# Altium integrated library Dallas Peripheral Real Time Clock.IntLib: 145 symbols (part 2 of 3)
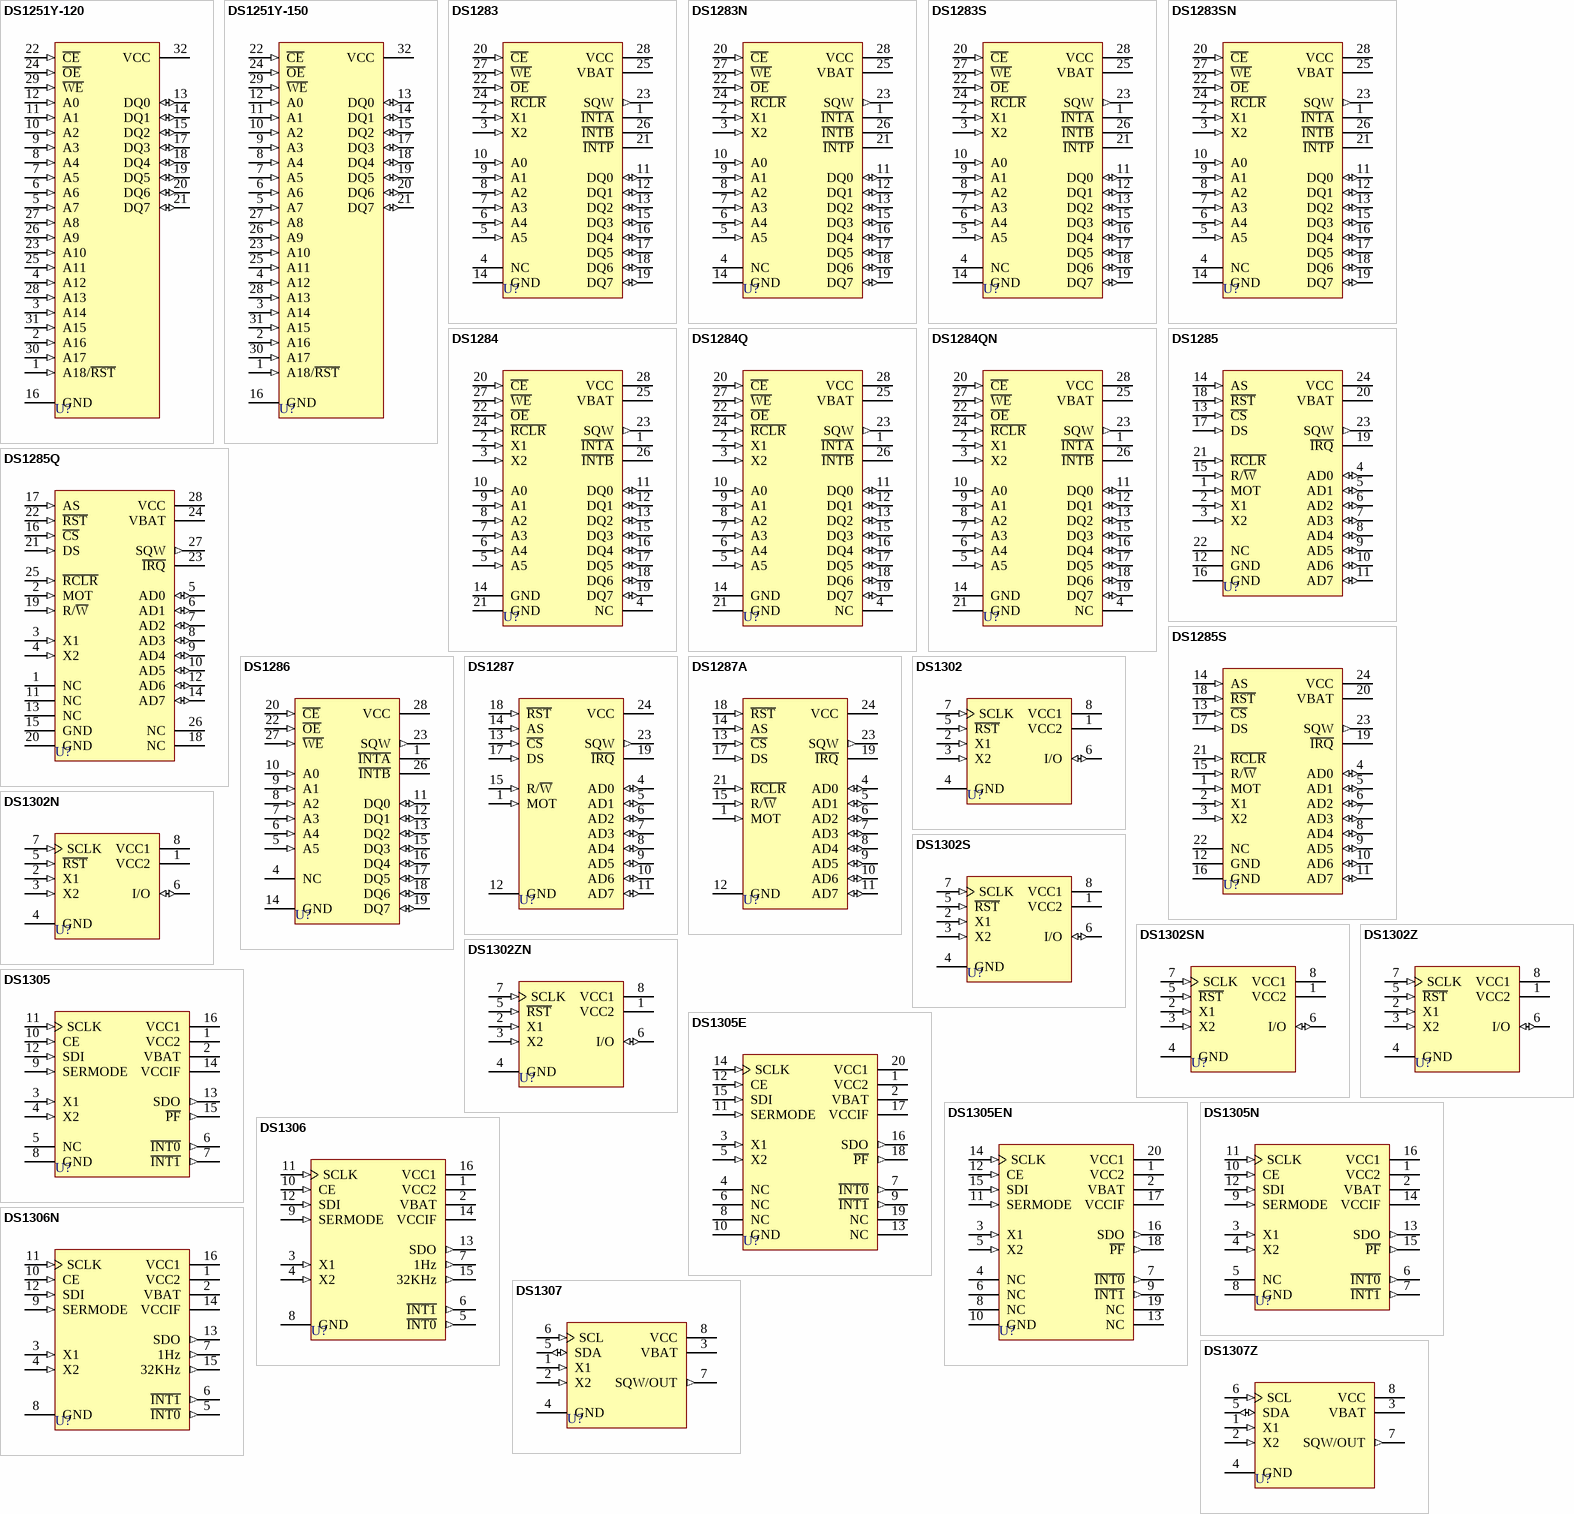
[diagram p6: symbols DS1251Y-120 to DS1307Z]

## DS1307Z
designator U?
64 X 8 Serial Real-Time Clock; PackageDocument: 1999; Published: 13-Oct-2000; LatestRevisionDate: 06-Jun-2005; LatestRevisionNote: Stylized 3D Model Added.; DatasheetDocument: 10-Aug-1999; PackageReference: SOIC8N; Publisher: Altium Limited; ComponentLink1Description: Manufacturer Link; ComponentLink1URL: http://www.maxim-ic.com/; ComponentLink2Description: Datasheet; ComponentLink2URL: http://pdfserv.maxim-ic.com/en/ds/DS1307.pdf; ComponentLink3Description: Discontinuation Notice; ComponentLink3URL: http://www.maxim-ic.com/qa/pdfs/non-obsolescence-letter.pdf
footprint SOIC8N (Small Outline; 8 Leads; Body Width 3.9 mm; Pitch 1.27 mm)
3D model SOIC8N (Small Outline; 8 Leads; Body Width 3.9 mm; Pitch 1.27 mm)
pins: 1 X1 (in), 2 X2 (in), 3 VBAT (power), 4 GND (power), 5 SDA (io), 6 SCL (in), 7 SQW/OUT (out), 8 VCC (power)

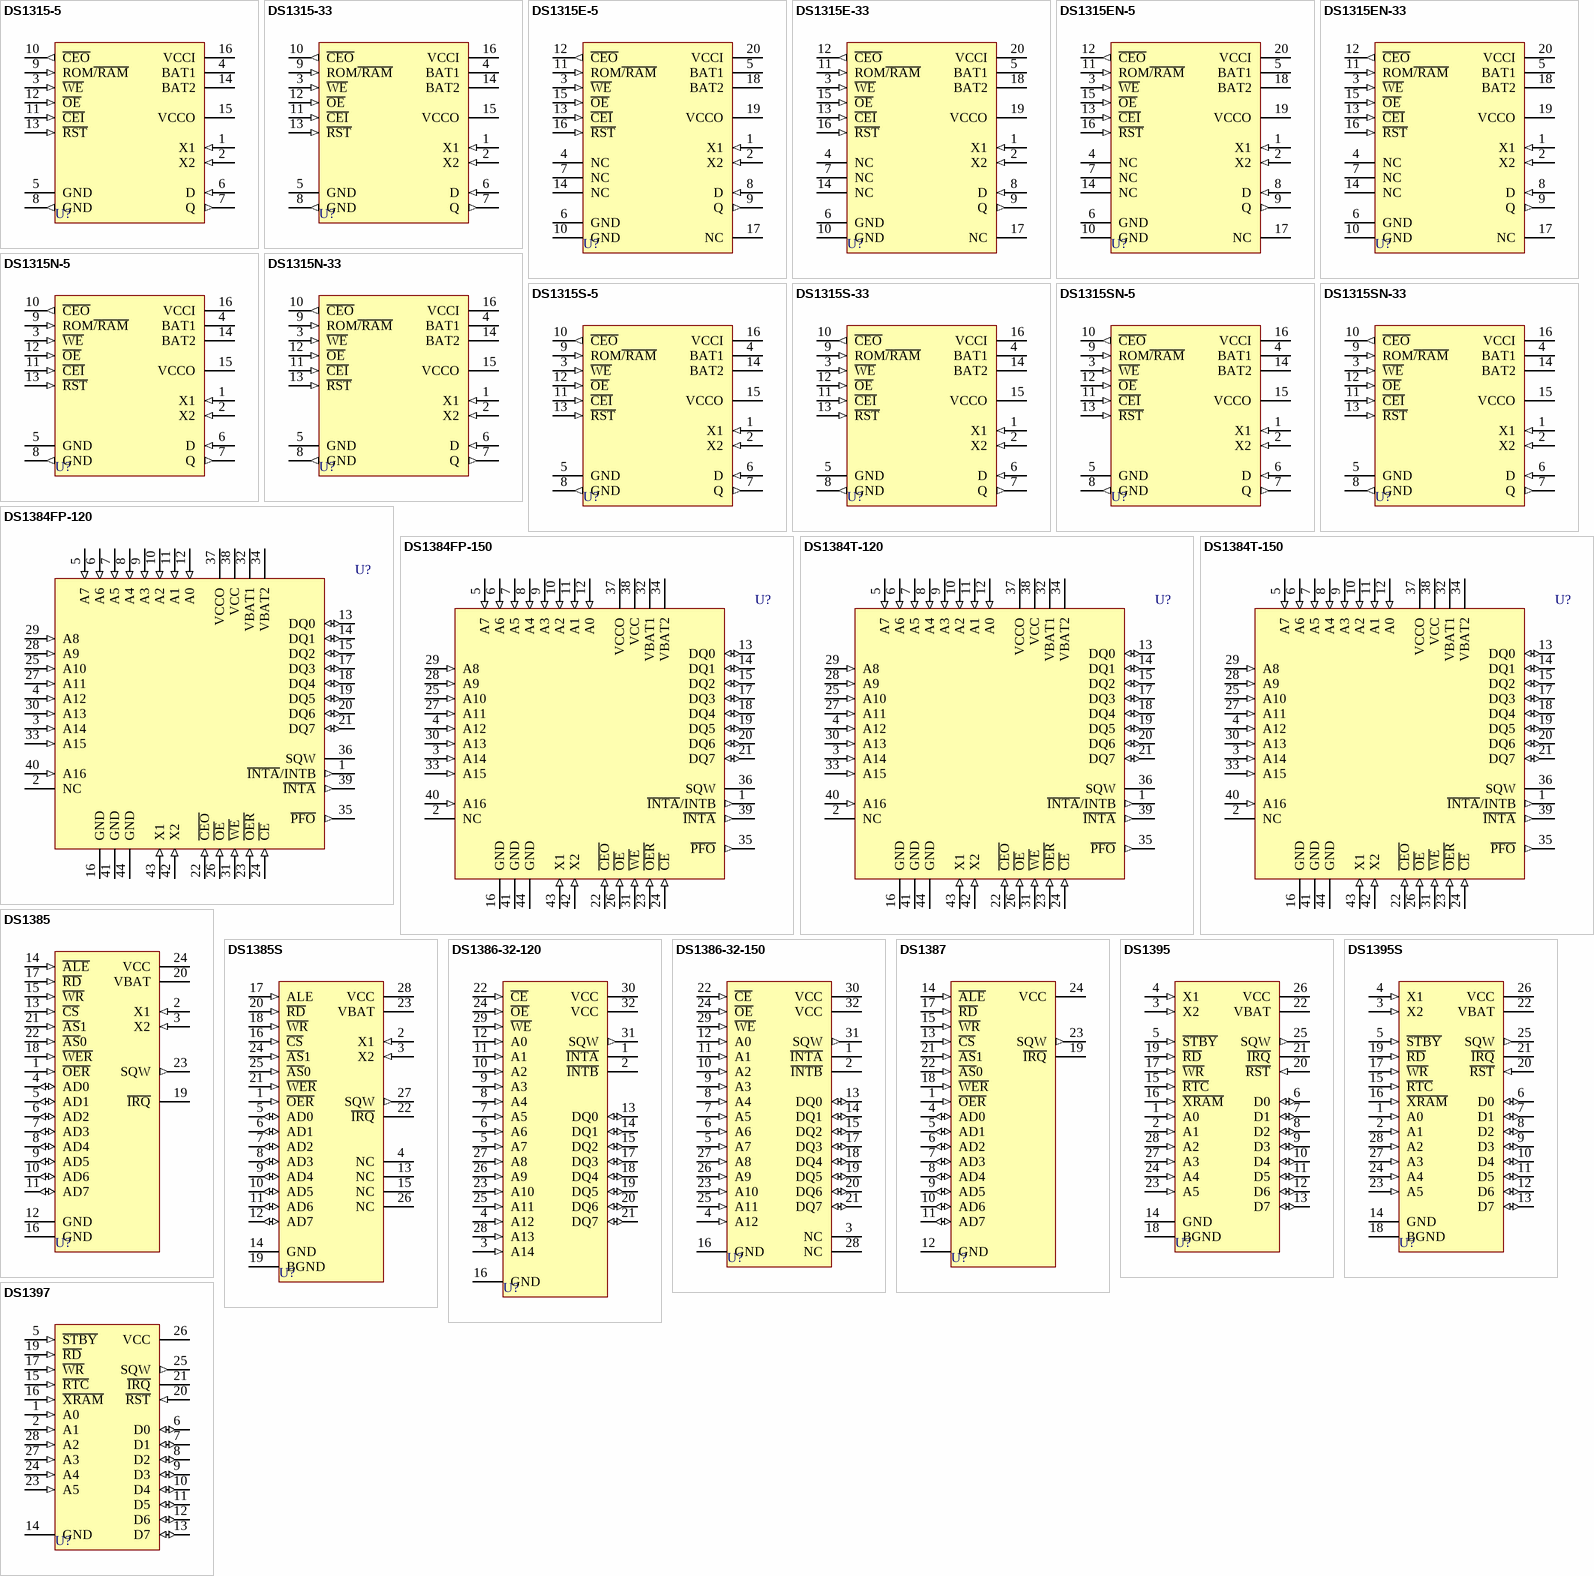
[diagram p2: symbols DS1315-5 to DS1397]

## DS1315-5
designator U?
Phantom Time Chip; PackageDocument: 1999; Published: 13-Oct-2000; LatestRevisionDate: 06-Jun-2005; LatestRevisionNote: Stylized 3D Model Added.; DatasheetDocument: 26-Aug-1999; PackageReference: DIP16; Publisher: Altium Limited; ComponentLink1Description: Manufacturer Link; ComponentLink1URL: http://www.maxim-ic.com/; ComponentLink2Description: Datasheet; ComponentLink2URL: http://pdfserv.maxim-ic.com/en/ds/DS1315.pdf
footprint DIP16 (DIP; 16 Leads; Row Spacing 7.62 mm; Pitch 2.54 mm)
3D model DIP16 (DIP; 16 Leads; Row Spacing 7.62 mm; Pitch 2.54 mm)
pins: 1 X1 (in), 2 X2 (in), 3 ~{WE} (in), 4 BAT1 (power), 5 GND (power), 6 D (in), 7 Q (out), 8 GND (out), 9 ROM~{/RAM} (in), 10 ~{CEO} (out), 11 ~{CEI} (in), 12 ~{OE} (in), 13 ~{RST} (in), 14 BAT2 (power), 15 VCCO (power), 16 VCCI (power)

## DS1315-33
designator U?
Phantom Time Chip; PackageDocument: 1999; Published: 13-Oct-2000; LatestRevisionDate: 06-Jun-2005; LatestRevisionNote: Stylized 3D Model Added.; DatasheetDocument: 26-Aug-1999; PackageReference: DIP16; Publisher: Altium Limited; ComponentLink1Description: Manufacturer Link; ComponentLink1URL: http://www.maxim-ic.com/; ComponentLink2Description: Datasheet; ComponentLink2URL: http://pdfserv.maxim-ic.com/en/ds/DS1315.pdf
footprint DIP16 (DIP; 16 Leads; Row Spacing 7.62 mm; Pitch 2.54 mm)
3D model DIP16 (DIP; 16 Leads; Row Spacing 7.62 mm; Pitch 2.54 mm)
pins: 1 X1 (in), 2 X2 (in), 3 ~{WE} (in), 4 BAT1 (power), 5 GND (power), 6 D (in), 7 Q (out), 8 GND (out), 9 ROM~{/RAM} (in), 10 ~{CEO} (out), 11 ~{CEI} (in), 12 ~{OE} (in), 13 ~{RST} (in), 14 BAT2 (power), 15 VCCO (power), 16 VCCI (power)

## DS1315E-5
designator U?
Phantom Time Chip; Note: Pin numbers 4, 7, 14 and 17 are Not Connected (NC); Published: 13-Oct-2000; LatestRevisionDate: 06-Jun-2005; LatestRevisionNote: Stylized 3D Model Added.; DatasheetDocument: 26-Aug-1999; PackageReference: TSSOP20; Publisher: Altium Limited; ComponentLink1Description: Manufacturer Link; ComponentLink1URL: http://www.maxim-ic.com/; ComponentLink2Description: Datasheet; ComponentLink2URL: http://pdfserv.maxim-ic.com/en/ds/DS1315.pdf
footprint TSSOP20 (Shrink Small Outline; 20 Leads; Body Width 4.4 mm; Pitch 0.65 mm)
3D model TSSOP20 (Shrink Small Outline; 20 Leads; Body Width 4.4 mm; Pitch 0.65 mm)
pins: 1 X1 (in), 2 X2 (in), 3 ~{WE} (in), 4 NC, 5 BAT1 (power), 6 GND (power), 7 NC, 8 D (in), 9 Q (out), 10 GND (power), 11 ROM~{/RAM} (in), 12 ~{CEO} (out), 13 ~{CEI} (in), 14 NC, 15 ~{OE} (in), 16 ~{RST} (in), 17 NC, 18 BAT2 (power), 19 VCCO (power), 20 VCCI (power)

## DS1315E-33
designator U?
Phantom Time Chip; Note: Pin numbers 4, 7, 14 and 17 are Not Connected (NC); Published: 13-Oct-2000; LatestRevisionDate: 06-Jun-2005; LatestRevisionNote: Stylized 3D Model Added.; DatasheetDocument: 26-Aug-1999; PackageReference: TSSOP20; Publisher: Altium Limited; ComponentLink1Description: Manufacturer Link; ComponentLink1URL: http://www.maxim-ic.com/; ComponentLink2Description: Datasheet; ComponentLink2URL: http://pdfserv.maxim-ic.com/en/ds/DS1315.pdf
footprint TSSOP20 (Shrink Small Outline; 20 Leads; Body Width 4.4 mm; Pitch 0.65 mm)
3D model TSSOP20 (Shrink Small Outline; 20 Leads; Body Width 4.4 mm; Pitch 0.65 mm)
pins: 1 X1 (in), 2 X2 (in), 3 ~{WE} (in), 4 NC, 5 BAT1 (power), 6 GND (power), 7 NC, 8 D (in), 9 Q (out), 10 GND (power), 11 ROM~{/RAM} (in), 12 ~{CEO} (out), 13 ~{CEI} (in), 14 NC, 15 ~{OE} (in), 16 ~{RST} (in), 17 NC, 18 BAT2 (power), 19 VCCO (power), 20 VCCI (power)

## DS1315EN-5
designator U?
Phantom Time Chip; Note: Pin numbers 4, 7, 14 and 17 are Not Connected (NC); Published: 13-Oct-2000; LatestRevisionDate: 06-Jun-2005; LatestRevisionNote: Stylized 3D Model Added.; DatasheetDocument: 26-Aug-1999; PackageReference: TSSOP20; Publisher: Altium Limited; ComponentLink1Description: Manufacturer Link; ComponentLink1URL: http://www.maxim-ic.com/; ComponentLink2Description: Datasheet; ComponentLink2URL: http://pdfserv.maxim-ic.com/en/ds/DS1315.pdf
footprint TSSOP20 (Shrink Small Outline; 20 Leads; Body Width 4.4 mm; Pitch 0.65 mm)
3D model TSSOP20 (Shrink Small Outline; 20 Leads; Body Width 4.4 mm; Pitch 0.65 mm)
pins: 1 X1 (in), 2 X2 (in), 3 ~{WE} (in), 4 NC, 5 BAT1 (power), 6 GND (power), 7 NC, 8 D (in), 9 Q (out), 10 GND (power), 11 ROM~{/RAM} (in), 12 ~{CEO} (out), 13 ~{CEI} (in), 14 NC, 15 ~{OE} (in), 16 ~{RST} (in), 17 NC, 18 BAT2 (power), 19 VCCO (power), 20 VCCI (power)

## DS1315EN-33
designator U?
Phantom Time Chip; Note: Pin numbers 4, 7, 14 and 17 are Not Connected (NC); Published: 13-Oct-2000; LatestRevisionDate: 06-Jun-2005; LatestRevisionNote: Stylized 3D Model Added.; DatasheetDocument: 26-Aug-1999; PackageReference: TSSOP20; Publisher: Altium Limited; ComponentLink1Description: Manufacturer Link; ComponentLink1URL: http://www.maxim-ic.com/; ComponentLink2Description: Datasheet; ComponentLink2URL: http://pdfserv.maxim-ic.com/en/ds/DS1315.pdf
footprint TSSOP20 (Shrink Small Outline; 20 Leads; Body Width 4.4 mm; Pitch 0.65 mm)
3D model TSSOP20 (Shrink Small Outline; 20 Leads; Body Width 4.4 mm; Pitch 0.65 mm)
pins: 1 X1 (in), 2 X2 (in), 3 ~{WE} (in), 4 NC, 5 BAT1 (power), 6 GND (power), 7 NC, 8 D (in), 9 Q (out), 10 GND (power), 11 ROM~{/RAM} (in), 12 ~{CEO} (out), 13 ~{CEI} (in), 14 NC, 15 ~{OE} (in), 16 ~{RST} (in), 17 NC, 18 BAT2 (power), 19 VCCO (power), 20 VCCI (power)

## DS1315N-5
designator U?
Phantom Time Chip; PackageDocument: 1999; Published: 13-Oct-2000; LatestRevisionDate: 06-Jun-2005; LatestRevisionNote: Stylized 3D Model Added.; DatasheetDocument: 26-Aug-1999; PackageReference: DIP16; Publisher: Altium Limited; ComponentLink1Description: Manufacturer Link; ComponentLink1URL: http://www.maxim-ic.com/; ComponentLink2Description: Datasheet; ComponentLink2URL: http://pdfserv.maxim-ic.com/en/ds/DS1315.pdf
footprint DIP16 (DIP; 16 Leads; Row Spacing 7.62 mm; Pitch 2.54 mm)
3D model DIP16 (DIP; 16 Leads; Row Spacing 7.62 mm; Pitch 2.54 mm)
pins: 1 X1 (in), 2 X2 (in), 3 ~{WE} (in), 4 BAT1 (power), 5 GND (power), 6 D (in), 7 Q (out), 8 GND (out), 9 ROM~{/RAM} (in), 10 ~{CEO} (out), 11 ~{CEI} (in), 12 ~{OE} (in), 13 ~{RST} (in), 14 BAT2 (power), 15 VCCO (power), 16 VCCI (power)

## DS1315N-33
designator U?
Phantom Time Chip; PackageDocument: 1999; Published: 13-Oct-2000; LatestRevisionDate: 06-Jun-2005; LatestRevisionNote: Stylized 3D Model Added.; DatasheetDocument: 26-Aug-1999; PackageReference: DIP16; Publisher: Altium Limited; ComponentLink1Description: Manufacturer Link; ComponentLink1URL: http://www.maxim-ic.com/; ComponentLink2Description: Datasheet; ComponentLink2URL: http://pdfserv.maxim-ic.com/en/ds/DS1315.pdf
footprint DIP16 (DIP; 16 Leads; Row Spacing 7.62 mm; Pitch 2.54 mm)
3D model DIP16 (DIP; 16 Leads; Row Spacing 7.62 mm; Pitch 2.54 mm)
pins: 1 X1 (in), 2 X2 (in), 3 ~{WE} (in), 4 BAT1 (power), 5 GND (power), 6 D (in), 7 Q (out), 8 GND (out), 9 ROM~{/RAM} (in), 10 ~{CEO} (out), 11 ~{CEI} (in), 12 ~{OE} (in), 13 ~{RST} (in), 14 BAT2 (power), 15 VCCO (power), 16 VCCI (power)

## DS1315S-5
designator U?
Phantom Time Chip; PackageDocument: 1994; Published: 13-Oct-2000; LatestRevisionDate: 06-Jun-2005; LatestRevisionNote: Stylized 3D Model Added.; DatasheetDocument: 26-Aug-1999; PackageReference: SOIC16WA; Publisher: Altium Limited; ComponentLink1Description: Manufacturer Link; ComponentLink1URL: http://www.maxim-ic.com/; ComponentLink2Description: Datasheet; ComponentLink2URL: http://pdfserv.maxim-ic.com/en/ds/DS1315.pdf
footprint SOIC16WA (Small Outline; 16 Leads; Body Width 7.5 mm; Pitch 1.27 mm)
3D model SOIC16WA (Small Outline; 16 Leads; Body Width 7.5 mm; Pitch 1.27 mm)
pins: 1 X1 (in), 2 X2 (in), 3 ~{WE} (in), 4 BAT1 (power), 5 GND (power), 6 D (in), 7 Q (out), 8 GND (out), 9 ROM~{/RAM} (in), 10 ~{CEO} (out), 11 ~{CEI} (in), 12 ~{OE} (in), 13 ~{RST} (in), 14 BAT2 (power), 15 VCCO (power), 16 VCCI (power)

## DS1315S-33
designator U?
Phantom Time Chip; PackageDocument: 1994; Published: 13-Oct-2000; LatestRevisionDate: 06-Jun-2005; LatestRevisionNote: Stylized 3D Model Added.; DatasheetDocument: 26-Aug-1999; PackageReference: SOIC16WA; Publisher: Altium Limited; ComponentLink1Description: Manufacturer Link; ComponentLink1URL: http://www.maxim-ic.com/; ComponentLink2Description: Datasheet; ComponentLink2URL: http://pdfserv.maxim-ic.com/en/ds/DS1315.pdf
footprint SOIC16WA (Small Outline; 16 Leads; Body Width 7.5 mm; Pitch 1.27 mm)
3D model SOIC16WA (Small Outline; 16 Leads; Body Width 7.5 mm; Pitch 1.27 mm)
pins: 1 X1 (in), 2 X2 (in), 3 ~{WE} (in), 4 BAT1 (power), 5 GND (power), 6 D (in), 7 Q (out), 8 GND (out), 9 ROM~{/RAM} (in), 10 ~{CEO} (out), 11 ~{CEI} (in), 12 ~{OE} (in), 13 ~{RST} (in), 14 BAT2 (power), 15 VCCO (power), 16 VCCI (power)

## DS1315SN-5
designator U?
Phantom Time Chip; PackageDocument: 1994; Published: 13-Oct-2000; LatestRevisionDate: 06-Jun-2005; LatestRevisionNote: Stylized 3D Model Added.; DatasheetDocument: 26-Aug-1999; PackageReference: SOIC16WA; Publisher: Altium Limited; ComponentLink1Description: Manufacturer Link; ComponentLink1URL: http://www.maxim-ic.com/; ComponentLink2Description: Datasheet; ComponentLink2URL: http://pdfserv.maxim-ic.com/en/ds/DS1315.pdf
footprint SOIC16WA (Small Outline; 16 Leads; Body Width 7.5 mm; Pitch 1.27 mm)
3D model SOIC16WA (Small Outline; 16 Leads; Body Width 7.5 mm; Pitch 1.27 mm)
pins: 1 X1 (in), 2 X2 (in), 3 ~{WE} (in), 4 BAT1 (power), 5 GND (power), 6 D (in), 7 Q (out), 8 GND (out), 9 ROM~{/RAM} (in), 10 ~{CEO} (out), 11 ~{CEI} (in), 12 ~{OE} (in), 13 ~{RST} (in), 14 BAT2 (power), 15 VCCO (power), 16 VCCI (power)

## DS1315SN-33
designator U?
Phantom Time Chip; PackageDocument: 1994; Published: 13-Oct-2000; LatestRevisionDate: 06-Jun-2005; LatestRevisionNote: Stylized 3D Model Added.; DatasheetDocument: 26-Aug-1999; PackageReference: SOIC16WA; Publisher: Altium Limited; ComponentLink1Description: Manufacturer Link; ComponentLink1URL: http://www.maxim-ic.com/; ComponentLink2Description: Datasheet; ComponentLink2URL: http://pdfserv.maxim-ic.com/en/ds/DS1315.pdf
footprint SOIC16WA (Small Outline; 16 Leads; Body Width 7.5 mm; Pitch 1.27 mm)
3D model SOIC16WA (Small Outline; 16 Leads; Body Width 7.5 mm; Pitch 1.27 mm)
pins: 1 X1 (in), 2 X2 (in), 3 ~{WE} (in), 4 BAT1 (power), 5 GND (power), 6 D (in), 7 Q (out), 8 GND (out), 9 ROM~{/RAM} (in), 10 ~{CEO} (out), 11 ~{CEI} (in), 12 ~{OE} (in), 13 ~{RST} (in), 14 BAT2 (power), 15 VCCO (power), 16 VCCI (power)

## DS1384FP-120
designator U?
Watchdog Timekeeping Controller; Note: Pin number 2 is Not Connected (NC); Published: 13-Oct-2000; LatestRevisionDate: 06-Jun-2005; LatestRevisionNote: Stylized 3D Model Added.; DatasheetDocument: 5-Apr-1999; PackageReference: MQFP44NA; Publisher: Altium Limited; ComponentLink1Description: Manufacturer Link; ComponentLink1URL: http://www.maxim-ic.com/; ComponentLink2Description: Datasheet; ComponentLink2URL: http://pdfserv.maxim-ic.com/en/ds/DS1384.pdf; ComponentLink3Description: Discontinuation Notice; ComponentLink3URL: http://www.maxim-ic.com/qa/pdfs/non-obsolescence-letter.pdf
footprint MQFP44NA (QFP; 44 Leads; Body 10 x 10 mm; Pitch 0.8 mm)
3D model DS1384-MQFP44NA (QFP; 44 Leads; Body 10 x 10 mm; Pitch 0.8 mm)
pins: 1 ~{INTA}/INTB (out), 2 NC, 3 A14 (in), 4 A12 (in), 5 A7 (in), 6 A6 (in), 7 A5 (in), 8 A4 (in), 9 A3 (in), 10 A2 (in), 11 A1 (in), 12 A0 (in), 13 DQ0 (io), 14 DQ1 (io), 15 DQ2 (io), 16 GND (power), 17 DQ3 (io), 18 DQ4 (io), 19 DQ5 (io), 20 DQ6 (io), 21 DQ7 (io), 22 ~{CEO} (in), 23 ~{OER} (in), 24 ~{CE} (in), 25 A10 (in), 26 ~{OE} (in), 27 A11 (in), 28 A9 (in), 29 A8 (in), 30 A13 (in), 31 ~{WE} (in), 32 VBAT1 (power), 33 A15 (in), 34 VBAT2 (power), 35 ~{PFO} (out), 36 SQW (hiz), 37 VCCO (power), 38 VCC (power), 39 ~{INTA} (out), 40 A16 (in), 41 GND (power), 42 X2 (in), 43 X1 (in), 44 GND (power)

## DS1384FP-150
designator U?
Watchdog Timekeeping Controller; Note: Pin number 2 is Not Connected (NC); Published: 13-Oct-2000; LatestRevisionDate: 06-Jun-2005; LatestRevisionNote: Stylized 3D Model Added.; DatasheetDocument: 5-Apr-1999; PackageReference: MQFP44NA; Publisher: Altium Limited; ComponentLink1Description: Manufacturer Link; ComponentLink1URL: http://www.maxim-ic.com/; ComponentLink2Description: Datasheet; ComponentLink2URL: http://pdfserv.maxim-ic.com/en/ds/DS1384.pdf; ComponentLink3Description: Discontinuation Notice; ComponentLink3URL: http://www.maxim-ic.com/qa/pdfs/non-obsolescence-letter.pdf
footprint MQFP44NA (QFP; 44 Leads; Body 10 x 10 mm; Pitch 0.8 mm)
3D model DS1384-MQFP44NA (QFP; 44 Leads; Body 10 x 10 mm; Pitch 0.8 mm)
pins: 1 ~{INTA}/INTB (out), 2 NC, 3 A14 (in), 4 A12 (in), 5 A7 (in), 6 A6 (in), 7 A5 (in), 8 A4 (in), 9 A3 (in), 10 A2 (in), 11 A1 (in), 12 A0 (in), 13 DQ0 (io), 14 DQ1 (io), 15 DQ2 (io), 16 GND (power), 17 DQ3 (io), 18 DQ4 (io), 19 DQ5 (io), 20 DQ6 (io), 21 DQ7 (io), 22 ~{CEO} (in), 23 ~{OER} (in), 24 ~{CE} (in), 25 A10 (in), 26 ~{OE} (in), 27 A11 (in), 28 A9 (in), 29 A8 (in), 30 A13 (in), 31 ~{WE} (in), 32 VBAT1 (power), 33 A15 (in), 34 VBAT2 (power), 35 ~{PFO} (out), 36 SQW (hiz), 37 VCCO (power), 38 VCC (power), 39 ~{INTA} (out), 40 A16 (in), 41 GND (power), 42 X2 (in), 43 X1 (in), 44 GND (power)

## DS1384T-120
designator U?
Watchdog Timekeeping Controller; PackageDocument: 1995; Note: Pin number 2 is Not Connected (NC); Published: 13-Oct-2000; LatestRevisionDate: 06-Jun-2005; LatestRevisionNote: Stylized 3D Model Added.; DatasheetDocument: 18-Aug-1995; PackageReference: TQFP44; Publisher: Altium Limited; ComponentLink1Description: Manufacturer Link; ComponentLink1URL: http://www.maxim-ic.com/; ComponentLink2Description: Datasheet; ComponentLink2URL: http://pdfserv.maxim-ic.com/en/ds/DS1384_C.pdf; ComponentLink3Description: Discontinuation Notice; ComponentLink3URL: http://www.maxim-ic.com/qa/pdfs/non-obsolescence-letter.pdf
footprint TQFP44 (QFP; 44 Leads; Body 10 x 10 mm; Pitch 0.8 mm)
3D model DS1384-TQFP44 (QFP; 44 Leads; Body 10 x 10 mm; Pitch 0.8 mm)
pins: 1 ~{INTA}/INTB (out), 2 NC, 3 A14 (in), 4 A12 (in), 5 A7 (in), 6 A6 (in), 7 A5 (in), 8 A4 (in), 9 A3 (in), 10 A2 (in), 11 A1 (in), 12 A0 (in), 13 DQ0 (io), 14 DQ1 (io), 15 DQ2 (io), 16 GND (power), 17 DQ3 (io), 18 DQ4 (io), 19 DQ5 (io), 20 DQ6 (io), 21 DQ7 (io), 22 ~{CEO} (in), 23 ~{OER} (in), 24 ~{CE} (in), 25 A10 (in), 26 ~{OE} (in), 27 A11 (in), 28 A9 (in), 29 A8 (in), 30 A13 (in), 31 ~{WE} (in), 32 VBAT1 (power), 33 A15 (in), 34 VBAT2 (power), 35 ~{PFO} (out), 36 SQW (hiz), 37 VCCO (power), 38 VCC (power), 39 ~{INTA} (out), 40 A16 (in), 41 GND (power), 42 X2 (in), 43 X1 (in), 44 GND (power)

## DS1384T-150
designator U?
Watchdog Timekeeping Controller; PackageDocument: 1995; Note: Pin number 2 is Not Connected (NC); Published: 13-Oct-2000; LatestRevisionDate: 06-Jun-2005; LatestRevisionNote: Stylized 3D Model Added.; DatasheetDocument: 18-Aug-1995; PackageReference: TQFP44; Publisher: Altium Limited; ComponentLink1Description: Manufacturer Link; ComponentLink1URL: http://www.maxim-ic.com/; ComponentLink2Description: Datasheet; ComponentLink2URL: http://pdfserv.maxim-ic.com/en/ds/DS1384_C.pdf; ComponentLink3Description: Discontinuation Notice; ComponentLink3URL: http://www.maxim-ic.com/qa/pdfs/non-obsolescence-letter.pdf
footprint TQFP44 (QFP; 44 Leads; Body 10 x 10 mm; Pitch 0.8 mm)
3D model DS1384-TQFP44 (QFP; 44 Leads; Body 10 x 10 mm; Pitch 0.8 mm)
pins: 1 ~{INTA}/INTB (out), 2 NC, 3 A14 (in), 4 A12 (in), 5 A7 (in), 6 A6 (in), 7 A5 (in), 8 A4 (in), 9 A3 (in), 10 A2 (in), 11 A1 (in), 12 A0 (in), 13 DQ0 (io), 14 DQ1 (io), 15 DQ2 (io), 16 GND (power), 17 DQ3 (io), 18 DQ4 (io), 19 DQ5 (io), 20 DQ6 (io), 21 DQ7 (io), 22 ~{CEO} (in), 23 ~{OER} (in), 24 ~{CE} (in), 25 A10 (in), 26 ~{OE} (in), 27 A11 (in), 28 A9 (in), 29 A8 (in), 30 A13 (in), 31 ~{WE} (in), 32 VBAT1 (power), 33 A15 (in), 34 VBAT2 (power), 35 ~{PFO} (out), 36 SQW (hiz), 37 VCCO (power), 38 VCC (power), 39 ~{INTA} (out), 40 A16 (in), 41 GND (power), 42 X2 (in), 43 X1 (in), 44 GND (power)

## DS1385
designator U?
RAMified Real-Time Clock 4K X 8; PackageDocument: 1999; Published: 13-Oct-2000; LatestRevisionDate: 06-Jun-2005; LatestRevisionNote: Stylized 3D Model Added.; DatasheetDocument: 8-May-1998; PackageReference: DIP24W; Publisher: Altium Limited; ComponentLink1Description: Manufacturer Link; ComponentLink1URL: http://www.maxim-ic.com/
footprint DIP24W (DIP; 24 Leads; Row Spacing 15.24 mm; Pitch 2.54 mm)
3D model DIP24W (DIP; 24 Leads; Row Spacing 15.24 mm; Pitch 2.54 mm)
pins: 1 ~{OER} (in), 2 X1 (in), 3 X2 (in), 4 AD0 (io), 5 AD1 (io), 6 AD2 (io), 7 AD3 (io), 8 AD4 (io), 9 AD5 (io), 10 AD6 (io), 11 AD7 (io), 12 GND (power), 13 ~{CS} (in), 14 ~{ALE} (in), 15 ~{WR} (in), 16 GND (power), 17 ~{RD} (in), 18 ~{WER} (in), 19 ~{IRQ} (oc), 20 VBAT (power), 21 ~{AS}1 (in), 22 ~{AS}0 (in), 23 SQW (out), 24 VCC (power)

## DS1385S
designator U?
RAMified Real-Time Clock 4K X 8; PackageDocument: 1999; Note: Pin numbers 4, 13, 15 and 26 are Not Connected (NC); Published: 13-Oct-2000; LatestRevisionDate: 06-Jun-2005; LatestRevisionNote: Stylized 3D Model Added.; DatasheetDocument: 8-May-1998; PackageReference: SOIC28VW; Publisher: Altium Limited; ComponentLink1Description: Manufacturer Link; ComponentLink1URL: http://www.maxim-ic.com/
footprint SOIC28VW (Small Outline; 28 Leads; Body Width 8.7 mm; Pitch 1.27 mm)
3D model SOIC28VW (Small Outline; 28 Leads; Body Width 8.7 mm; Pitch 1.27 mm)
pins: 1 ~{OER} (in), 2 X1 (in), 3 X2 (in), 4 NC, 5 AD0 (io), 6 AD1 (io), 7 AD2 (io), 8 AD3 (io), 9 AD4 (io), 10 AD5 (io), 11 AD6 (io), 12 AD7 (io), 13 NC, 14 GND (power), 15 NC, 16 ~{CS} (in), 17 ALE (in), 18 ~{WR} (in), 19 BGND (power), 20 ~{RD} (in), 21 ~{WER} (in), 22 ~{IRQ} (oc), 23 VBAT (power), 24 ~{AS}1 (in), 25 ~{AS}0 (in), 26 NC, 27 SQW (out), 28 VCC (power)

## DS1386-32-120
designator U?
RAMified Watchdog Timekeeper; Published: 13-Oct-2000; LatestRevisionDate: 17-Jul-2002; LatestRevisionNote: PCB footprint, 'DIP-P32/Y1.2' replaced; Re-released for DXP Platform.; DatasheetDocument: 20-Oct-1999; PackageReference: ENDIP32A; Publisher: Altium Limited; ComponentLink1Description: Manufacturer Link; ComponentLink1URL: http://www.maxim-ic.com/; ComponentLink2Description: Datasheet; ComponentLink2URL: http://pdfserv.maxim-ic.com/en/ds/DS1386-DS1386P.pdf; ComponentLink3Description: Discontinuation Notice; ComponentLink3URL: http://www.maxim-ic.com/qa/pdfs/non-obsolescence-letter.pdf
footprint ENDIP32A (DIP; 32 Rectangular Pins; Row Space 15.24 mm; Pitch 2.54 mm)
pins: 1 ~{INTA} (oc), 2 ~{INTB} (oc), 3 A14 (in), 4 A12 (in), 5 A7 (in), 6 A6 (in), 7 A5 (in), 8 A4 (in), 9 A3 (in), 10 A2 (in), 11 A1 (in), 12 A0 (in), 13 DQ0 (io), 14 DQ1 (io), 15 DQ2 (io), 16 GND (power), 17 DQ3 (io), 18 DQ4 (io), 19 DQ5 (io), 20 DQ6 (io), 21 DQ7 (io), 22 ~{CE} (in), 23 A10 (in), 24 ~{OE} (in), 25 A11 (in), 26 A9 (in), 27 A8 (in), 28 A13 (in), 29 ~{WE} (in), 30 VCC (power), 31 SQW (out), 32 VCC (power)

## DS1386-32-150
designator U?
RAMified Watchdog Timekeeper; Note: Pin numbers 3 and 28 are Not Connected (NC); Published: 13-Oct-2000; LatestRevisionDate: 17-Jul-2002; LatestRevisionNote: PCB footprint, 'DIP-P32/Y1.2' replaced; Re-released for DXP Platform.; DatasheetDocument: 20-Oct-1999; PackageReference: ENDIP32A; Publisher: Altium Limited; ComponentLink1Description: Manufacturer Link; ComponentLink1URL: http://www.maxim-ic.com/; ComponentLink2Description: Datasheet; ComponentLink2URL: http://pdfserv.maxim-ic.com/en/ds/DS1386-DS1386P.pdf; ComponentLink3Description: Discontinuation Notice; ComponentLink3URL: http://www.maxim-ic.com/qa/pdfs/non-obsolescence-letter.pdf
footprint ENDIP32A (DIP; 32 Rectangular Pins; Row Space 15.24 mm; Pitch 2.54 mm)
pins: 1 ~{INTA} (oc), 2 ~{INTB} (oc), 3 NC, 4 A12 (in), 5 A7 (in), 6 A6 (in), 7 A5 (in), 8 A4 (in), 9 A3 (in), 10 A2 (in), 11 A1 (in), 12 A0 (in), 13 DQ0 (io), 14 DQ1 (io), 15 DQ2 (io), 16 GND (power), 17 DQ3 (io), 18 DQ4 (io), 19 DQ5 (io), 20 DQ6 (io), 21 DQ7 (io), 22 ~{CE} (in), 23 A10 (in), 24 ~{OE} (in), 25 A11 (in), 26 A9 (in), 27 A8 (in), 28 NC, 29 ~{WE} (in), 30 VCC (power), 31 SQW (out), 32 VCC (power)

## DS1387
designator U?
RAMified Real-Time Clock 4K X 8; Note: Pin numbers 2, 3, 16 and 20 are Not Connected (NC); Published: 13-Oct-2000; LatestRevisionDate: 17-Jul-2002; LatestRevisionNote: Re-released for DXP Platform.; DatasheetDocument: 8-May-1998; PackageReference: ENDIP24D; Publisher: Altium Limited; ComponentLink1Description: Manufacturer Link; ComponentLink1URL: http://www.maxim-ic.com/
footprint ENDIP24D (DIP; 24 Rectangular pins (4 Absent); Row Space 15.24 mm; Pitch 2.54 mm)
pins: 1 ~{OER} (in), 4 AD0 (io), 5 AD1 (io), 6 AD2 (io), 7 AD3 (io), 8 AD4 (io), 9 AD5 (io), 10 AD6 (io), 11 AD7 (io), 12 GND (power), 13 ~{CS} (in), 14 ~{ALE} (in), 15 ~{WR} (in), 17 ~{RD} (in), 18 ~{WER} (in), 19 ~{IRQ} (oc), 21 ~{AS}1 (in), 22 ~{AS}0 (in), 23 SQW (out), 24 VCC (power)

## DS1395
designator U?
RAMified Real-Time Clock; PackageDocument: 1999; Published: 13-Oct-2000; LatestRevisionDate: 06-Jun-2005; LatestRevisionNote: Stylized 3D Model Added.; DatasheetDocument: 8-May-1998; PackageReference: DIP28W; Publisher: Altium Limited; ComponentLink1Description: Manufacturer Link; ComponentLink1URL: http://www.maxim-ic.com/
footprint DIP28W (DIP; 28 Leads; Row Spacing 15.24 mm; Pitch 2.54 mm)
3D model DIP28W (DIP; 28 Leads; Row Spacing 15.24 mm; Pitch 2.54 mm)
pins: 1 A0 (in), 2 A1 (in), 3 X2 (in), 4 X1 (in), 5 ~{STBY} (in), 6 D0 (io), 7 D1 (io), 8 D2 (io), 9 D3 (io), 10 D4 (io), 11 D5 (io), 12 D6 (io), 13 D7 (io), 14 GND (power), 15 ~{RTC} (in), 16 ~{XRAM} (in), 17 ~{WR} (in), 18 BGND (power), 19 ~{RD} (in), 20 ~{RST} (in), 21 ~{IRQ} (oc), 22 VBAT (power), 23 A5 (in), 24 A4 (in), 25 SQW (out), 26 VCC (power), 27 A3 (in), 28 A2 (in)

## DS1395S
designator U?
RAMified Real-Time Clock; PackageDocument: 1999; Published: 13-Oct-2000; LatestRevisionDate: 06-Jun-2005; LatestRevisionNote: Stylized 3D Model Added.; DatasheetDocument: 8-May-1998; PackageReference: SOIC28VW; Publisher: Altium Limited; ComponentLink1Description: Manufacturer Link; ComponentLink1URL: http://www.maxim-ic.com/
footprint SOIC28VW (Small Outline; 28 Leads; Body Width 8.7 mm; Pitch 1.27 mm)
3D model SOIC28VW (Small Outline; 28 Leads; Body Width 8.7 mm; Pitch 1.27 mm)
pins: 1 A0 (in), 2 A1 (in), 3 X2 (in), 4 X1 (in), 5 ~{STBY} (in), 6 D0 (io), 7 D1 (io), 8 D2 (io), 9 D3 (io), 10 D4 (io), 11 D5 (io), 12 D6 (io), 13 D7 (io), 14 GND (power), 15 ~{RTC} (in), 16 ~{XRAM} (in), 17 ~{WR} (in), 18 BGND (power), 19 ~{RD} (in), 20 ~{RST} (in), 21 ~{IRQ} (oc), 22 VBAT (power), 23 A5 (in), 24 A4 (in), 25 SQW (out), 26 VCC (power), 27 A3 (in), 28 A2 (in)

## DS1397
designator U?
RAMified Real-Time Clock; Note: Pin numbers  3, 4, 18 and 22 are Not Connected (NC); Published: 13-Oct-2000; LatestRevisionDate: 17-Jul-2002; LatestRevisionNote: PCB footprint, 'DIP-P24(28)/X1.2' replaced; Re-released for DXP Platform.; DatasheetDocument: 8-May-1998; PackageReference: ENDIP28J; Publisher: Altium Limited; ComponentLink1Description: Manufacturer Link; ComponentLink1URL: http://www.maxim-ic.com/
footprint ENDIP28J (DIP; 28 Rectangular pins (4 Absent); Row Space 15.24 mm; Pitch 2.54 mm)
pins: 1 A0 (in), 2 A1 (in), 5 ~{STBY} (in), 6 D0 (io), 7 D1 (io), 8 D2 (io), 9 D3 (io), 10 D4 (io), 11 D5 (io), 12 D6 (io), 13 D7 (io), 14 GND (power), 15 ~{RTC} (in), 16 ~{XRAM} (in), 17 ~{WR} (in), 19 ~{RD} (in), 20 ~{RST} (in), 21 ~{IRQ} (oc), 23 A5 (in), 24 A4 (in), 25 SQW (out), 26 VCC (power), 27 A3 (in), 28 A2 (in)

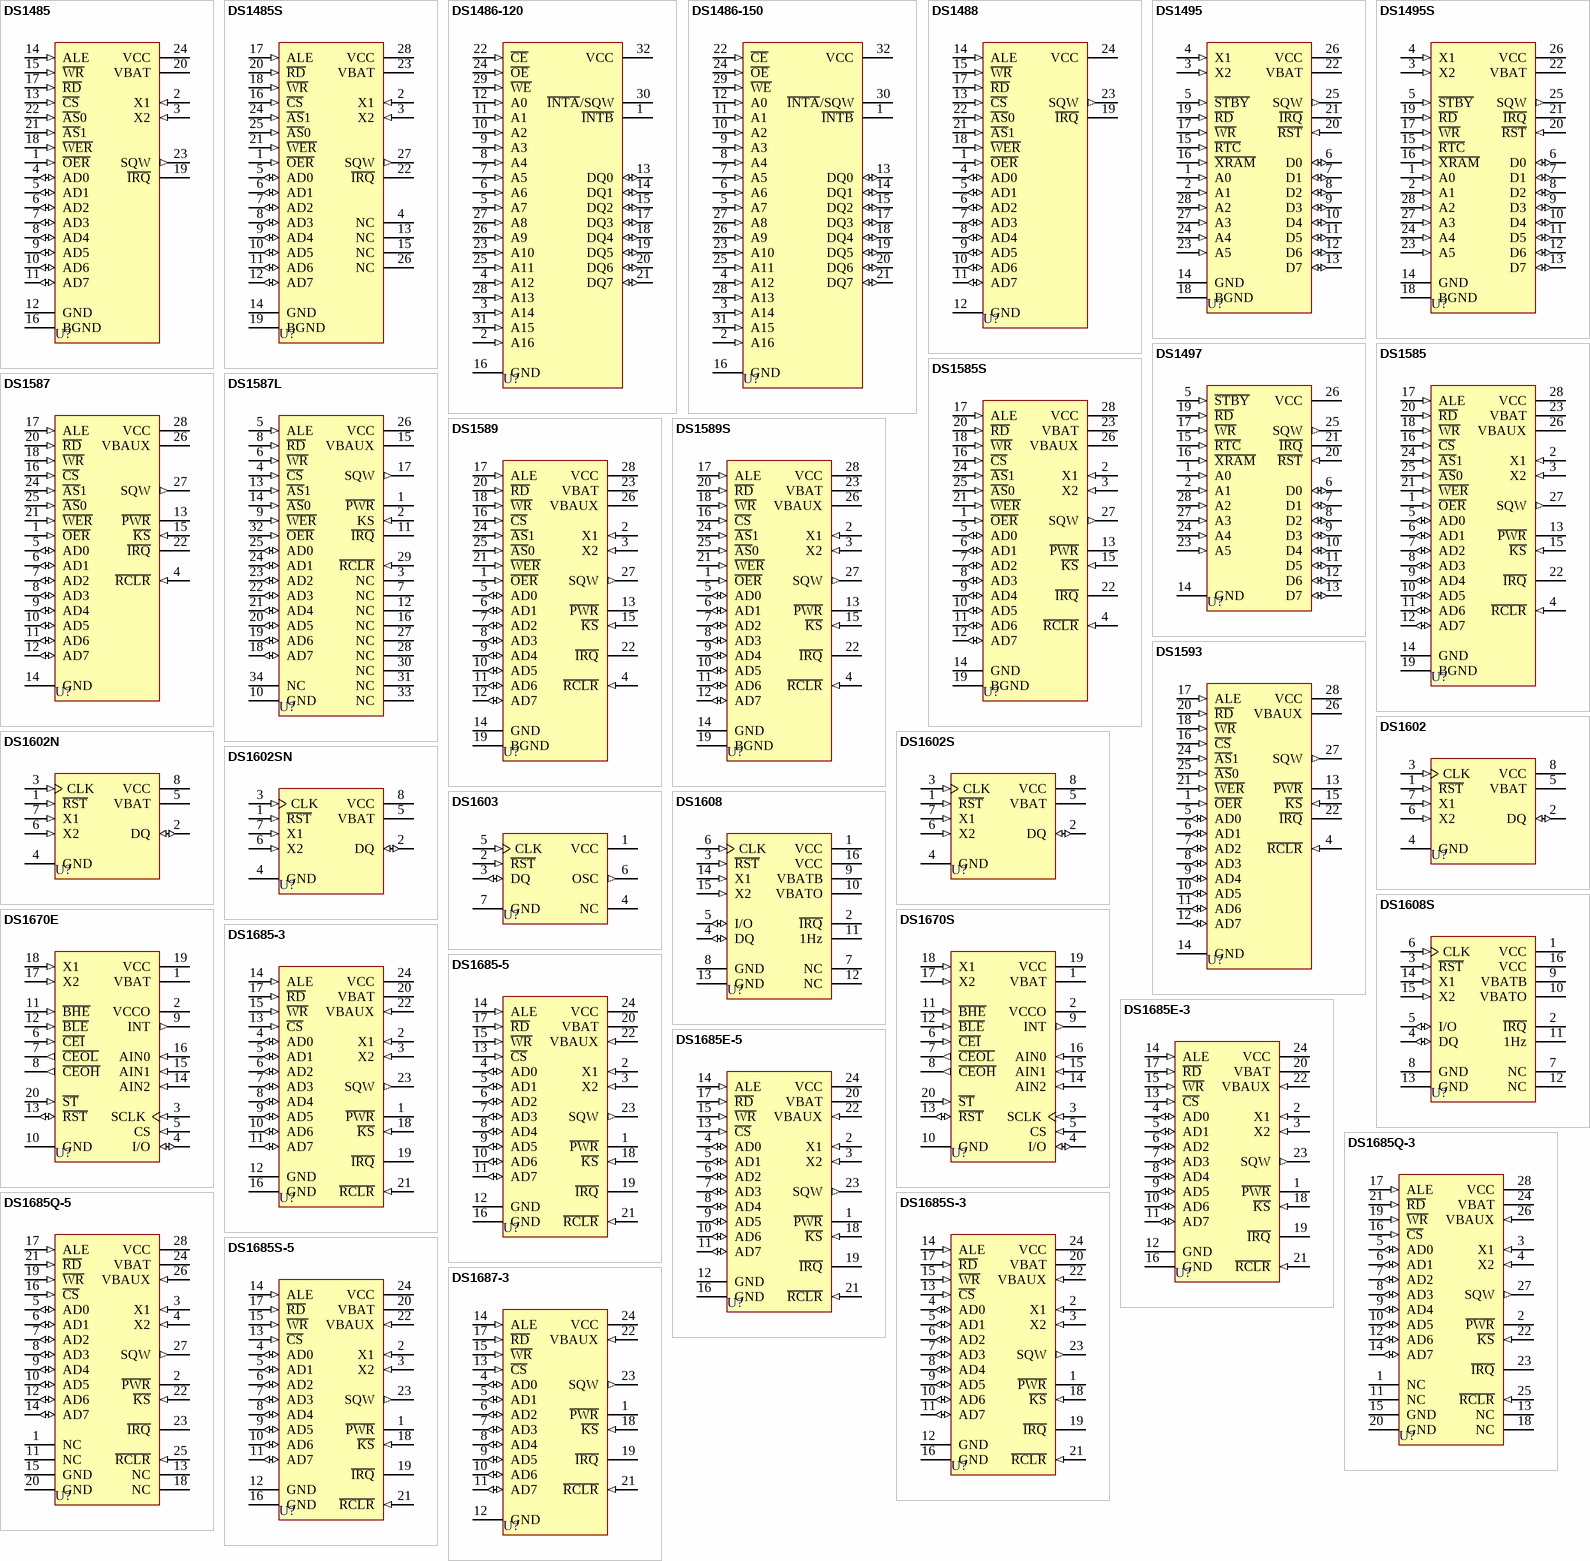
[diagram p3: symbols DS1485 to DS1687-3]

## DS1485
designator U?
RAMified Real-Time Clock 8K x 8; PackageDocument: 1999; Published: 13-Oct-2000; LatestRevisionDate: 06-Jun-2005; LatestRevisionNote: Stylized 3D Model Added.; DatasheetDocument: 8-May-1998; PackageReference: DIP24W; Publisher: Altium Limited; ComponentLink1Description: Manufacturer Link; ComponentLink1URL: http://www.maxim-ic.com/
footprint DIP24W (DIP; 24 Leads; Row Spacing 15.24 mm; Pitch 2.54 mm)
3D model DIP24W (DIP; 24 Leads; Row Spacing 15.24 mm; Pitch 2.54 mm)
pins: 1 ~{OER} (in), 2 X1 (in), 3 X2 (in), 4 AD0 (io), 5 AD1 (io), 6 AD2 (io), 7 AD3 (io), 8 AD4 (io), 9 AD5 (io), 10 AD6 (io), 11 AD7 (io), 12 GND (power), 13 ~{CS} (in), 14 ALE (in), 15 ~{WR} (in), 16 BGND (power), 17 ~{RD} (in), 18 ~{WER} (in), 19 ~{IRQ} (oc), 20 VBAT (power), 21 ~{AS}1 (in), 22 ~{AS}0 (in), 23 SQW (out), 24 VCC (power)

## DS1485S
designator U?
RAMified Real-Time Clock 8K x 8; PackageDocument: 1999; Note: Pin numbers  4, 13, 15 and 26 are Not Connected (NC); Published: 13-Oct-2000; LatestRevisionDate: 06-Jun-2005; LatestRevisionNote: Stylized 3D Model Added.; DatasheetDocument: 8-May-1998; PackageReference: SOIC28VW; Publisher: Altium Limited; ComponentLink1Description: Manufacturer Link; ComponentLink1URL: http://www.maxim-ic.com/
footprint SOIC28VW (Small Outline; 28 Leads; Body Width 8.7 mm; Pitch 1.27 mm)
3D model SOIC28VW (Small Outline; 28 Leads; Body Width 8.7 mm; Pitch 1.27 mm)
pins: 1 ~{OER} (in), 2 X1 (in), 3 X2 (in), 4 NC, 5 AD0 (io), 6 AD1 (io), 7 AD2 (io), 8 AD3 (io), 9 AD4 (io), 10 AD5 (io), 11 AD6 (io), 12 AD7 (io), 13 NC, 14 GND (power), 15 NC, 16 ~{CS} (in), 17 ALE (in), 18 ~{WR} (in), 19 BGND (power), 20 ~{RD} (in), 21 ~{WER} (in), 22 ~{IRQ} (oc), 23 VBAT (power), 24 ~{AS}1 (in), 25 ~{AS}0 (in), 26 NC, 27 SQW (out), 28 VCC (power)

## DS1486-120
designator U?
RAMified Watchdog Timekeeper; Published: 13-Oct-2000; LatestRevisionDate: 17-Jul-2002; LatestRevisionNote: PCB footprint, 'DIP-P32/Y1.2' replaced; Re-released for DXP Platform.; DatasheetDocument: 20-Aug-1999; PackageReference: ENDIP32A; Publisher: Altium Limited; ComponentLink1Description: Manufacturer Link; ComponentLink1URL: http://www.maxim-ic.com/; ComponentLink2Description: Datasheet; ComponentLink2URL: http://pdfserv.maxim-ic.com/en/ds/DS1486-DS1486P.pdf; ComponentLink3Description: Discontinuation Notice; ComponentLink3URL: http://www.maxim-ic.com/qa/pdfs/non-obsolescence-letter.pdf
footprint ENDIP32A (DIP; 32 Rectangular Pins; Row Space 15.24 mm; Pitch 2.54 mm)
pins: 1 ~{INTB} (oc), 2 A16 (in), 3 A14 (in), 4 A12 (in), 5 A7 (in), 6 A6 (in), 7 A5 (in), 8 A4 (in), 9 A3 (in), 10 A2 (in), 11 A1 (in), 12 A0 (in), 13 DQ0 (io), 14 DQ1 (io), 15 DQ2 (io), 16 GND (power), 17 DQ3 (io), 18 DQ4 (io), 19 DQ5 (io), 20 DQ6 (io), 21 DQ7 (io), 22 ~{CE} (in), 23 A10 (in), 24 ~{OE} (in), 25 A11 (in), 26 A9 (in), 27 A8 (in), 28 A13 (in), 29 ~{WE} (in), 30 ~{INTA}/SQW (oc), 31 A15 (in), 32 VCC (power)

## DS1486-150
designator U?
RAMified Watchdog Timekeeper; Published: 13-Oct-2000; LatestRevisionDate: 17-Jul-2002; LatestRevisionNote: PCB footprint, 'DIP-P32/Y1.2' replaced; Re-released for DXP Platform.; DatasheetDocument: 20-Aug-1999; PackageReference: ENDIP32A; Publisher: Altium Limited; ComponentLink1Description: Manufacturer Link; ComponentLink1URL: http://www.maxim-ic.com/; ComponentLink2Description: Datasheet; ComponentLink2URL: http://pdfserv.maxim-ic.com/en/ds/DS1486-DS1486P.pdf; ComponentLink3Description: Discontinuation Notice; ComponentLink3URL: http://www.maxim-ic.com/qa/pdfs/non-obsolescence-letter.pdf
footprint ENDIP32A (DIP; 32 Rectangular Pins; Row Space 15.24 mm; Pitch 2.54 mm)
pins: 1 ~{INTB} (oc), 2 A16 (in), 3 A14 (in), 4 A12 (in), 5 A7 (in), 6 A6 (in), 7 A5 (in), 8 A4 (in), 9 A3 (in), 10 A2 (in), 11 A1 (in), 12 A0 (in), 13 DQ0 (io), 14 DQ1 (io), 15 DQ2 (io), 16 GND (power), 17 DQ3 (io), 18 DQ4 (io), 19 DQ5 (io), 20 DQ6 (io), 21 DQ7 (io), 22 ~{CE} (in), 23 A10 (in), 24 ~{OE} (in), 25 A11 (in), 26 A9 (in), 27 A8 (in), 28 A13 (in), 29 ~{WE} (in), 30 ~{INTA}/SQW (oc), 31 A15 (in), 32 VCC (power)

## DS1488
designator U?
RAMified Real-Time Clock 8K x 8; Note: Pin numbers  2, 3, 16 and 20 are Not Connected (NC); Published: 13-Oct-2000; LatestRevisionDate: 17-Jul-2002; LatestRevisionNote: Re-released for DXP Platform.; DatasheetDocument: 8-May-1998; PackageReference: ENDIP24D; Publisher: Altium Limited; ComponentLink1Description: Manufacturer Link; ComponentLink1URL: http://www.maxim-ic.com/
footprint ENDIP24D (DIP; 24 Rectangular pins (4 Absent); Row Space 15.24 mm; Pitch 2.54 mm)
pins: 1 ~{OER} (in), 4 AD0 (io), 5 AD1 (io), 6 AD2 (io), 7 AD3 (io), 8 AD4 (io), 9 AD5 (io), 10 AD6 (io), 11 AD7 (io), 12 GND (power), 13 ~{CS} (in), 14 ALE (in), 15 ~{WR} (in), 17 ~{RD} (in), 18 ~{WER} (in), 19 ~{IRQ} (oc), 21 ~{AS}1 (in), 22 ~{AS}0 (in), 23 SQW (out), 24 VCC (power)

## DS1495
designator U?
RAMified Real-Time Clock; PackageDocument: 1999; Published: 13-Oct-2000; LatestRevisionDate: 06-Jun-2005; LatestRevisionNote: Stylized 3D Model Added.; DatasheetDocument: 8-May-1998; PackageReference: DIP28W; Publisher: Altium Limited; ComponentLink1Description: Manufacturer Link; ComponentLink1URL: http://www.maxim-ic.com/
footprint DIP28W (DIP; 28 Leads; Row Spacing 15.24 mm; Pitch 2.54 mm)
3D model DIP28W (DIP; 28 Leads; Row Spacing 15.24 mm; Pitch 2.54 mm)
pins: 1 A0 (in), 2 A1 (in), 3 X2 (in), 4 X1 (in), 5 ~{STBY} (in), 6 D0 (io), 7 D1 (io), 8 D2 (io), 9 D3 (io), 10 D4 (io), 11 D5 (io), 12 D6 (io), 13 D7 (io), 14 GND (power), 15 ~{RTC} (in), 16 ~{XRAM} (in), 17 ~{WR} (in), 18 BGND (power), 19 ~{RD} (in), 20 ~{RST} (in), 21 ~{IRQ} (oc), 22 VBAT (power), 23 A5 (in), 24 A4 (in), 25 SQW (out), 26 VCC (power), 27 A3 (in), 28 A2 (in)

## DS1495S
designator U?
RAMified Real-Time Clock; PackageDocument: 1999; Published: 13-Oct-2000; LatestRevisionDate: 06-Jun-2005; LatestRevisionNote: Stylized 3D Model Added.; DatasheetDocument: 8-May-1998; PackageReference: SOIC28VW; Publisher: Altium Limited; ComponentLink1Description: Manufacturer Link; ComponentLink1URL: http://www.maxim-ic.com/
footprint SOIC28VW (Small Outline; 28 Leads; Body Width 8.7 mm; Pitch 1.27 mm)
3D model SOIC28VW (Small Outline; 28 Leads; Body Width 8.7 mm; Pitch 1.27 mm)
pins: 1 A0 (in), 2 A1 (in), 3 X2 (in), 4 X1 (in), 5 ~{STBY} (in), 6 D0 (io), 7 D1 (io), 8 D2 (io), 9 D3 (io), 10 D4 (io), 11 D5 (io), 12 D6 (io), 13 D7 (io), 14 GND (power), 15 ~{RTC} (in), 16 ~{XRAM} (in), 17 ~{WR} (in), 18 BGND (power), 19 ~{RD} (in), 20 ~{RST} (in), 21 ~{IRQ} (oc), 22 VBAT (power), 23 A5 (in), 24 A4 (in), 25 SQW (out), 26 VCC (power), 27 A3 (in), 28 A2 (in)

## DS1497
designator U?
RAMified Real-Time Clock; Note: Pin numbers  3, 4, 18 and 22 are Not Connected (NC); Published: 13-Oct-2000; LatestRevisionDate: 17-Jul-2002; LatestRevisionNote: PCB footprint, 'DIP-P24(28)/X1.2' replaced; Re-released for DXP Platform.; DatasheetDocument: 8-May-1998; PackageReference: ENDIP28J; Publisher: Altium Limited; ComponentLink1Description: Manufacturer Link; ComponentLink1URL: http://www.maxim-ic.com/
footprint ENDIP28J (DIP; 28 Rectangular pins (4 Absent); Row Space 15.24 mm; Pitch 2.54 mm)
pins: 1 A0 (in), 2 A1 (in), 5 ~{STBY} (in), 6 D0 (io), 7 D1 (io), 8 D2 (io), 9 D3 (io), 10 D4 (io), 11 D5 (io), 12 D6 (io), 13 D7 (io), 14 GND (power), 15 ~{RTC} (in), 16 ~{XRAM} (in), 17 ~{WR} (in), 19 ~{RD} (in), 20 ~{RST} (in), 21 ~{IRQ} (oc), 23 A5 (in), 24 A4 (in), 25 SQW (out), 26 VCC (power), 27 A3 (in), 28 A2 (in)

## DS1585
designator U?
Serialized Real-Time Clock; PackageDocument: 1999; Published: 13-Oct-2000; LatestRevisionDate: 06-Jun-2005; LatestRevisionNote: Stylized 3D Model Added.; DatasheetDocument: 8-May-1998; PackageReference: DIP28W; Publisher: Altium Limited; ComponentLink1Description: Manufacturer Link; ComponentLink1URL: http://www.maxim-ic.com/
footprint DIP28W (DIP; 28 Leads; Row Spacing 15.24 mm; Pitch 2.54 mm)
3D model DIP28W (DIP; 28 Leads; Row Spacing 15.24 mm; Pitch 2.54 mm)
pins: 1 ~{OER} (in), 2 X1 (in), 3 X2 (in), 4 ~{RCLR} (in), 5 AD0 (io), 6 AD1 (io), 7 AD2 (io), 8 AD3 (io), 9 AD4 (io), 10 AD5 (io), 11 AD6 (io), 12 AD7 (io), 13 ~{PWR} (oc), 14 GND (power), 15 ~{KS} (in), 16 ~{CS} (in), 17 ALE (in), 18 ~{WR} (in), 19 BGND (power), 20 ~{RD} (in), 21 ~{WER} (in), 22 ~{IRQ} (oc), 23 VBAT (power), 24 ~{AS}1 (in), 25 ~{AS}0 (in), 26 VBAUX (power), 27 SQW (out), 28 VCC (power)

## DS1585S
designator U?
Serialized Real-Time Clock; PackageDocument: 1999; Published: 13-Oct-2000; LatestRevisionDate: 06-Jun-2005; LatestRevisionNote: Stylized 3D Model Added.; DatasheetDocument: 8-May-1998; PackageReference: SOIC28VW; Publisher: Altium Limited; ComponentLink1Description: Manufacturer Link; ComponentLink1URL: http://www.maxim-ic.com/
footprint SOIC28VW (Small Outline; 28 Leads; Body Width 8.7 mm; Pitch 1.27 mm)
3D model SOIC28VW (Small Outline; 28 Leads; Body Width 8.7 mm; Pitch 1.27 mm)
pins: 1 ~{OER} (in), 2 X1 (in), 3 X2 (in), 4 ~{RCLR} (in), 5 AD0 (io), 6 AD1 (io), 7 AD2 (io), 8 AD3 (io), 9 AD4 (io), 10 AD5 (io), 11 AD6 (io), 12 AD7 (io), 13 ~{PWR} (oc), 14 GND (power), 15 ~{KS} (in), 16 ~{CS} (in), 17 ALE (in), 18 ~{WR} (in), 19 BGND (power), 20 ~{RD} (in), 21 ~{WER} (in), 22 ~{IRQ} (oc), 23 VBAT (power), 24 ~{AS}1 (in), 25 ~{AS}0 (in), 26 VBAUX (power), 27 SQW (out), 28 VCC (power)

## DS1587
designator U?
Serialized Real-Time Clock; Note: Pin numbers  2, 3, 19 and 23 are Not Connected (NC); Published: 13-Oct-2000; LatestRevisionDate: 17-Jul-2002; LatestRevisionNote: Re-released for DXP Platform.; DatasheetDocument: 8-May-1998; PackageReference: ENDIP28H; Publisher: Altium Limited; ComponentLink1Description: Manufacturer Link; ComponentLink1URL: http://www.maxim-ic.com/
footprint ENDIP28H (DIP; 28 Rectangular pins (4 Absent); Row Space 15.24 mm; Pitch 2.54 mm)
pins: 1 ~{OER} (in), 4 ~{RCLR} (in), 5 AD0 (io), 6 AD1 (io), 7 AD2 (io), 8 AD3 (io), 9 AD4 (io), 10 AD5 (io), 11 AD6 (io), 12 AD7 (io), 13 ~{PWR} (oc), 14 GND (power), 15 ~{KS} (in), 16 ~{CS} (in), 17 ALE (in), 18 ~{WR} (in), 20 ~{RD} (in), 21 ~{WER} (in), 22 ~{IRQ} (oc), 24 ~{AS}1 (in), 25 ~{AS}0 (in), 26 VBAUX (power), 27 SQW (out), 28 VCC (power)

## DS1587L
designator U?
Serialized Real-Time Clock; Note: Pin numbers  3, 7, 12, 16, 27, 28, 30, 31, 33 and 34 are Not Connected (NC); Published: 13-Oct-2000; LatestRevisionDate: 17-Jul-2002; LatestRevisionNote: Re-released for DXP Platform.; DatasheetDocument: 19-Apr-1994; PackageDocument: Apr-1998; PackageReference: LPM34A; Publisher: Altium Limited; ComponentLink1Description: Manufacturer Link; ComponentLink1URL: http://www.maxim-ic.com/
footprint LPM34A (LPM; 34 Leads; Body 24.4 x 25 mm (LxW typ); Pitch 1.27 mm)
pins: 1 ~{PWR} (oc), 2 KS (in), 3 NC, 4 ~{CS} (in), 5 ALE (in), 6 ~{WR} (in), 7 NC, 8 ~{RD} (in), 9 ~{WER} (in), 10 GND (power), 11 ~{IRQ} (oc), 12 NC, 13 ~{AS}1 (in), 14 ~{AS}0 (in), 15 VBAUX (power), 16 NC, 17 SQW (out), 18 AD7 (io), 19 AD6 (io), 20 AD5 (io), 21 AD4 (io), 22 AD3 (io), 23 AD2 (io), 24 AD1 (io), 25 AD0 (io), 26 VCC (power), 27 NC, 28 NC, 29 ~{RCLR} (in), 30 NC, 31 NC, 32 ~{OER} (in), 33 NC, 34 NC

## DS1589
designator U?
Serialized Real-Time Clock; PackageDocument: 1999; Published: 13-Oct-2000; LatestRevisionDate: 06-Jun-2005; LatestRevisionNote: Stylized 3D Model Added.; DatasheetDocument: 5-Mar-1998; PackageReference: DIP28W; Publisher: Altium Limited; ComponentLink1Description: Manufacturer Link; ComponentLink1URL: http://www.maxim-ic.com/
footprint DIP28W (DIP; 28 Leads; Row Spacing 15.24 mm; Pitch 2.54 mm)
3D model DIP28W (DIP; 28 Leads; Row Spacing 15.24 mm; Pitch 2.54 mm)
pins: 1 ~{OER} (in), 2 X1 (in), 3 X2 (in), 4 ~{RCLR} (in), 5 AD0 (io), 6 AD1 (io), 7 AD2 (io), 8 AD3 (io), 9 AD4 (io), 10 AD5 (io), 11 AD6 (io), 12 AD7 (io), 13 ~{PWR} (oc), 14 GND (power), 15 ~{KS} (in), 16 ~{CS} (in), 17 ALE (in), 18 ~{WR} (in), 19 BGND (power), 20 ~{RD} (in), 21 ~{WER} (in), 22 ~{IRQ} (oc), 23 VBAT (power), 24 ~{AS}1 (in), 25 ~{AS}0 (in), 26 VBAUX (power), 27 SQW (out), 28 VCC (power)

## DS1589S
designator U?
Serialized Real-Time Clock; PackageDocument: 1999; Published: 13-Oct-2000; LatestRevisionDate: 06-Jun-2005; LatestRevisionNote: Stylized 3D Model Added.; DatasheetDocument: 5-Mar-1998; PackageReference: SOIC28VW; Publisher: Altium Limited; ComponentLink1Description: Manufacturer Link; ComponentLink1URL: http://www.maxim-ic.com/
footprint SOIC28VW (Small Outline; 28 Leads; Body Width 8.7 mm; Pitch 1.27 mm)
3D model SOIC28VW (Small Outline; 28 Leads; Body Width 8.7 mm; Pitch 1.27 mm)
pins: 1 ~{OER} (in), 2 X1 (in), 3 X2 (in), 4 ~{RCLR} (in), 5 AD0 (io), 6 AD1 (io), 7 AD2 (io), 8 AD3 (io), 9 AD4 (io), 10 AD5 (io), 11 AD6 (io), 12 AD7 (io), 13 ~{PWR} (oc), 14 GND (power), 15 ~{KS} (in), 16 ~{CS} (in), 17 ALE (in), 18 ~{WR} (in), 19 BGND (power), 20 ~{RD} (in), 21 ~{WER} (in), 22 ~{IRQ} (oc), 23 VBAT (power), 24 ~{AS}1 (in), 25 ~{AS}0 (in), 26 VBAUX (power), 27 SQW (out), 28 VCC (power)

## DS1593
designator U?
Serialized Real-Time Clock; Note: Pin numbers  2, 3, 19 and 23 are Not Connected (NC); Published: 13-Oct-2000; LatestRevisionDate: 17-Jul-2002; LatestRevisionNote: Re-released for DXP Platform.; DatasheetDocument: 5-Mar-1998; PackageReference: ENDIP28H; Publisher: Altium Limited; ComponentLink1Description: Manufacturer Link; ComponentLink1URL: http://www.maxim-ic.com/
footprint ENDIP28H (DIP; 28 Rectangular pins (4 Absent); Row Space 15.24 mm; Pitch 2.54 mm)
pins: 1 ~{OER} (in), 4 ~{RCLR} (in), 5 AD0 (io), 6 AD1 (io), 7 AD2 (io), 8 AD3 (io), 9 AD4 (io), 10 AD5 (io), 11 AD6 (io), 12 AD7 (io), 13 ~{PWR} (oc), 14 GND (power), 15 ~{KS} (in), 16 ~{CS} (in), 17 ALE (in), 18 ~{WR} (in), 20 ~{RD} (in), 21 ~{WER} (in), 22 ~{IRQ} (oc), 24 ~{AS}1 (in), 25 ~{AS}0 (in), 26 VBAUX (power), 27 SQW (out), 28 VCC (power)

## DS1602
designator U?
Elapsed Time Counter; PackageDocument: 1999; Published: 13-Oct-2000; LatestRevisionDate: 06-Jun-2005; LatestRevisionNote: Stylized 3D Model Added.; DatasheetDocument: Jul-1999; PackageReference: DIP8; Publisher: Altium Limited; ComponentLink1Description: Manufacturer Link; ComponentLink1URL: http://www.maxim-ic.com/; ComponentLink2Description: Datasheet; ComponentLink2URL: http://pdfserv.maxim-ic.com/en/ds/DS1602.pdf; ComponentLink3Description: Discontinuation Notice; ComponentLink3URL: http://www.maxim-ic.com/qa/pdfs/non-obsolescence-letter.pdf
footprint DIP8 (DIP; 8 Leads; Row Spacing 7.62 mm; Pitch 2.54 mm)
3D model DIP8 (DIP; 8 Leads; Row Spacing 7.62 mm; Pitch 2.54 mm)
pins: 1 ~{RST} (in), 2 DQ (io), 3 CLK (in), 4 GND (power), 5 VBAT (power), 6 X2 (in), 7 X1 (in), 8 VCC (power)

## DS1602N
designator U?
Elapsed Time Counter; PackageDocument: 1999; Published: 13-Oct-2000; LatestRevisionDate: 06-Jun-2005; LatestRevisionNote: Stylized 3D Model Added.; DatasheetDocument: 14-Feb-1992; PackageReference: DIP8; Publisher: Altium Limited; ComponentLink1Description: Manufacturer Link; ComponentLink1URL: http://www.maxim-ic.com/; ComponentLink2Description: Datasheet; ComponentLink2URL: http://pdfserv.maxim-ic.com/en/ds/DS1602_C.pdf; ComponentLink3Description: Discontinuation Notice; ComponentLink3URL: http://www.maxim-ic.com/qa/pdfs/non-obsolescence-letter.pdf
footprint DIP8 (DIP; 8 Leads; Row Spacing 7.62 mm; Pitch 2.54 mm)
3D model DIP8 (DIP; 8 Leads; Row Spacing 7.62 mm; Pitch 2.54 mm)
pins: 1 ~{RST} (in), 2 DQ (io), 3 CLK (in), 4 GND (power), 5 VBAT (power), 6 X2 (in), 7 X1 (in), 8 VCC (power)

## DS1602S
designator U?
Elapsed Time Counter; PackageDocument: 1994; Published: 13-Oct-2000; LatestRevisionDate: 06-Jun-2005; LatestRevisionNote: Stylized 3D Model Added.; DatasheetDocument: Jul-1999; PackageReference: SOIC8WA; Publisher: Altium Limited; ComponentLink1Description: Manufacturer Link; ComponentLink1URL: http://www.maxim-ic.com/; ComponentLink2Description: Datasheet; ComponentLink2URL: http://pdfserv.maxim-ic.com/en/ds/DS1602.pdf; ComponentLink3Description: Discontinuation Notice; ComponentLink3URL: http://www.maxim-ic.com/qa/pdfs/non-obsolescence-letter.pdf
footprint SOIC8WA (Small Outline; 8 Leads; Body Width 5.3 mm; Pitch 1.27 mm)
3D model SOIC8WA (Small Outline; 8 Leads; Body Width 5.3 mm; Pitch 1.27 mm)
pins: 1 ~{RST} (in), 2 DQ (io), 3 CLK (in), 4 GND (power), 5 VBAT (power), 6 X2 (in), 7 X1 (in), 8 VCC (power)

## DS1602SN
designator U?
Elapsed Time Counter; PackageDocument: 1994; Published: 13-Oct-2000; LatestRevisionDate: 06-Jun-2005; LatestRevisionNote: Stylized 3D Model Added.; DatasheetDocument: 14-Feb-1992; PackageReference: SOIC8WA; Publisher: Altium Limited; ComponentLink1Description: Manufacturer Link; ComponentLink1URL: http://www.maxim-ic.com/; ComponentLink2Description: Datasheet; ComponentLink2URL: http://pdfserv.maxim-ic.com/en/ds/DS1602_C.pdf; ComponentLink3Description: Discontinuation Notice; ComponentLink3URL: http://www.maxim-ic.com/qa/pdfs/non-obsolescence-letter.pdf
footprint SOIC8WA (Small Outline; 8 Leads; Body Width 5.3 mm; Pitch 1.27 mm)
3D model SOIC8WA (Small Outline; 8 Leads; Body Width 5.3 mm; Pitch 1.27 mm)
pins: 1 ~{RST} (in), 2 DQ (io), 3 CLK (in), 4 GND (power), 5 VBAT (power), 6 X2 (in), 7 X1 (in), 8 VCC (power)

## DS1603
designator U?
Elapsed Time Counter Module; Note: Pin number 4 is Not Connected (NC); Published: 13-Oct-2000; LatestRevisionDate: 17-Jul-2002; LatestRevisionNote: Re-released for DXP Platform.; DatasheetDocument: 2-Aug-1999; PackageDocument: Aug-1999; PackageReference: ENSIP7; Publisher: Altium Limited; ComponentLink1Description: Manufacturer Link; ComponentLink1URL: http://www.maxim-ic.com/; ComponentLink2Description: Datasheet; ComponentLink2URL: http://pdfserv.maxim-ic.com/en/ds/DS1603.pdf; ComponentLink3Description: Discontinuation Notice; ComponentLink3URL: http://www.maxim-ic.com/qa/pdfs/non-obsolescence-letter.pdf
footprint ENSIP7 (SIP; 7 Leads; Body 7.6 x 21.3 x 16.8 mm (typ); Pitch 2.54 mm)
pins: 1 VCC (power), 2 ~{RST} (in), 3 DQ (io), 4 NC, 5 CLK (in), 6 OSC (out), 7 GND (power)

## DS1608
designator U?
EconoRAM Time Chip; PackageDocument: 1999; Note: Pin numbers 7 and 12 are Not Connected (NC); Published: 13-Oct-2000; LatestRevisionDate: 06-Jun-2005; LatestRevisionNote: Stylized 3D Model Added.; DatasheetDocument: 9-Nov-1993; PackageReference: DIP16; Publisher: Altium Limited; ComponentLink1Description: Manufacturer Link; ComponentLink1URL: http://www.maxim-ic.com/
footprint DIP16 (DIP; 16 Leads; Row Spacing 7.62 mm; Pitch 2.54 mm)
3D model DIP16 (DIP; 16 Leads; Row Spacing 7.62 mm; Pitch 2.54 mm)
pins: 1 VCC (power), 2 ~{IRQ} (oc), 3 ~{RST} (in), 4 DQ (io), 5 I/O (io), 6 CLK (in), 7 NC, 8 GND (power), 9 VBATB (power), 10 VBATO (power), 11 1Hz (oc), 12 NC, 13 GND (power), 14 X1 (in), 15 X2 (in), 16 VCC (power)

## DS1608S
designator U?
EconoRAM Time Chip; PackageDocument: 1994; Note: Pin numbers 7 and 12 are Not Connected (NC); Published: 13-Oct-2000; LatestRevisionDate: 06-Jun-2005; LatestRevisionNote: Stylized 3D Model Added.; DatasheetDocument: 9-Nov-1993; PackageReference: SOIC16WA; Publisher: Altium Limited; ComponentLink1Description: Manufacturer Link; ComponentLink1URL: http://www.maxim-ic.com/
footprint SOIC16WA (Small Outline; 16 Leads; Body Width 7.5 mm; Pitch 1.27 mm)
3D model SOIC16WA (Small Outline; 16 Leads; Body Width 7.5 mm; Pitch 1.27 mm)
pins: 1 VCC (power), 2 ~{IRQ} (oc), 3 ~{RST} (in), 4 DQ (io), 5 I/O (io), 6 CLK (in), 7 NC, 8 GND (power), 9 VBATB (power), 10 VBATO (power), 11 1Hz (oc), 12 NC, 13 GND (power), 14 X1 (in), 15 X2 (in), 16 VCC (power)

## DS1670E
designator U?
Portable System Controller; Published: 13-Oct-2000; LatestRevisionDate: 06-Jun-2005; LatestRevisionNote: Stylized 3D Model Added.; DatasheetDocument: 23-Mar-1999; PackageReference: TSSOP20; Publisher: Altium Limited; ComponentLink1Description: Manufacturer Link; ComponentLink1URL: http://www.maxim-ic.com/; ComponentLink2Description: Datasheet; ComponentLink2URL: http://pdfserv.maxim-ic.com/en/ds/DS1670.pdf
footprint TSSOP20 (Shrink Small Outline; 20 Leads; Body Width 4.4 mm; Pitch 0.65 mm)
3D model TSSOP20 (Shrink Small Outline; 20 Leads; Body Width 4.4 mm; Pitch 0.65 mm)
pins: 1 VBAT (power), 2 VCCO (power), 3 SCLK (in), 4 I/O (io), 5 CS (in), 6 ~{CEI} (in), 7 ~{CEOL} (out), 8 ~{CEOH} (out), 9 INT (out), 10 GND (power), 11 ~{BHE} (in), 12 ~{BLE} (in), 13 ~{RST} (io), 14 AIN2 (in), 15 AIN1 (in), 16 AIN0 (in), 17 X2 (in), 18 X1 (in), 19 VCC (power), 20 ~{ST} (in)

## DS1670S
designator U?
Portable System Controller; PackageDocument: 1999; Published: 13-Oct-2000; LatestRevisionDate: 06-Jun-2005; LatestRevisionNote: Stylized 3D Model Added.; DatasheetDocument: 23-Mar-1999; PackageReference: SOIC20; Publisher: Altium Limited; ComponentLink1Description: Manufacturer Link; ComponentLink1URL: http://www.maxim-ic.com/; ComponentLink2Description: Datasheet; ComponentLink2URL: http://pdfserv.maxim-ic.com/en/ds/DS1670.pdf
footprint SOIC20 (Small Outline; 20 Leads; Body Width 7.5 mm; Pitch 1.27 mm)
3D model SOIC20 (Small Outline; 20 Leads; Body Width 7.5 mm; Pitch 1.27 mm)
pins: 1 VBAT (power), 2 VCCO (power), 3 SCLK (in), 4 I/O (io), 5 CS (in), 6 ~{CEI} (in), 7 ~{CEOL} (out), 8 ~{CEOH} (out), 9 INT (out), 10 GND (power), 11 ~{BHE} (in), 12 ~{BLE} (in), 13 ~{RST} (io), 14 AIN2 (in), 15 AIN1 (in), 16 AIN0 (in), 17 X2 (in), 18 X1 (in), 19 VCC (power), 20 ~{ST} (in)

## DS1685-3
designator U?
3V Real-Time Clock; PackageDocument: 1999; Published: 13-Oct-2000; LatestRevisionDate: 06-Jun-2005; LatestRevisionNote: Stylized 3D Model Added.; DatasheetDocument: 2-Mar-1999; PackageReference: DIP24W; Publisher: Altium Limited; ComponentLink1Description: Manufacturer Link; ComponentLink1URL: http://www.maxim-ic.com/; ComponentLink2Description: Datasheet; ComponentLink2URL: http://pdfserv.maxim-ic.com/en/ds/DS1685-DS1687.pdf; ComponentLink3Description: Discontinuation Notice; ComponentLink3URL: http://www.maxim-ic.com/qa/pdfs/non-obsolescence-letter.pdf
footprint DIP24W (DIP; 24 Leads; Row Spacing 15.24 mm; Pitch 2.54 mm)
3D model DIP24W (DIP; 24 Leads; Row Spacing 15.24 mm; Pitch 2.54 mm)
pins: 1 ~{PWR} (oc), 2 X1 (in), 3 X2 (in), 4 AD0 (io), 5 AD1 (io), 6 AD2 (io), 7 AD3 (io), 8 AD4 (io), 9 AD5 (io), 10 AD6 (io), 11 AD7 (io), 12 GND (power), 13 ~{CS} (in), 14 ALE (in), 15 ~{WR} (in), 16 GND (power), 17 ~{RD} (in), 18 ~{KS} (in), 19 ~{IRQ} (oc), 20 VBAT (power), 21 ~{RCLR} (in), 22 VBAUX (in), 23 SQW (out), 24 VCC (power)

## DS1685-5
designator U?
5V Real-Time Clock; PackageDocument: 1999; Published: 13-Oct-2000; LatestRevisionDate: 06-Jun-2005; LatestRevisionNote: Stylized 3D Model Added.; DatasheetDocument: 2-Mar-1999; PackageReference: DIP24W; Publisher: Altium Limited; ComponentLink1Description: Manufacturer Link; ComponentLink1URL: http://www.maxim-ic.com/; ComponentLink2Description: Datasheet; ComponentLink2URL: http://pdfserv.maxim-ic.com/en/ds/DS1685-DS1687.pdf; ComponentLink3Description: Discontinuation Notice; ComponentLink3URL: http://www.maxim-ic.com/qa/pdfs/non-obsolescence-letter.pdf
footprint DIP24W (DIP; 24 Leads; Row Spacing 15.24 mm; Pitch 2.54 mm)
3D model DIP24W (DIP; 24 Leads; Row Spacing 15.24 mm; Pitch 2.54 mm)
pins: 1 ~{PWR} (oc), 2 X1 (in), 3 X2 (in), 4 AD0 (io), 5 AD1 (io), 6 AD2 (io), 7 AD3 (io), 8 AD4 (io), 9 AD5 (io), 10 AD6 (io), 11 AD7 (io), 12 GND (power), 13 ~{CS} (in), 14 ALE (in), 15 ~{WR} (in), 16 GND (power), 17 ~{RD} (in), 18 ~{KS} (in), 19 ~{IRQ} (oc), 20 VBAT (power), 21 ~{RCLR} (in), 22 VBAUX (in), 23 SQW (out), 24 VCC (power)

## DS1685E-3
designator U?
3V Real-Time Clock; Published: 13-Oct-2000; LatestRevisionDate: 06-Jun-2005; LatestRevisionNote: Stylized 3D Model Added.; DatasheetDocument: 2-Mar-1999; PackageReference: TSSOP24; Publisher: Altium Limited; ComponentLink1Description: Manufacturer Link; ComponentLink1URL: http://www.maxim-ic.com/; ComponentLink2Description: Datasheet; ComponentLink2URL: http://pdfserv.maxim-ic.com/en/ds/DS1685-DS1687.pdf; ComponentLink3Description: Discontinuation Notice; ComponentLink3URL: http://www.maxim-ic.com/qa/pdfs/non-obsolescence-letter.pdf
footprint TSSOP24 (Shrink Small Outline; 24 Leads; Body Width 4.4 mm; Pitch 0.65 mm)
3D model TSSOP24 (Shrink Small Outline; 24 Leads; Body Width 4.4 mm; Pitch 0.65 mm)
pins: 1 ~{PWR} (oc), 2 X1 (in), 3 X2 (in), 4 AD0 (io), 5 AD1 (io), 6 AD2 (io), 7 AD3 (io), 8 AD4 (io), 9 AD5 (io), 10 AD6 (io), 11 AD7 (io), 12 GND (power), 13 ~{CS} (in), 14 ALE (in), 15 ~{WR} (in), 16 GND (power), 17 ~{RD} (in), 18 ~{KS} (in), 19 ~{IRQ} (oc), 20 VBAT (power), 21 ~{RCLR} (in), 22 VBAUX (in), 23 SQW (out), 24 VCC (power)

## DS1685E-5
designator U?
5V Real-Time Clock; Published: 13-Oct-2000; LatestRevisionDate: 06-Jun-2005; LatestRevisionNote: Stylized 3D Model Added.; DatasheetDocument: 2-Mar-1999; PackageReference: TSSOP24; Publisher: Altium Limited; ComponentLink1Description: Manufacturer Link; ComponentLink1URL: http://www.maxim-ic.com/; ComponentLink2Description: Datasheet; ComponentLink2URL: http://pdfserv.maxim-ic.com/en/ds/DS1685-DS1687.pdf; ComponentLink3Description: Discontinuation Notice; ComponentLink3URL: http://www.maxim-ic.com/qa/pdfs/non-obsolescence-letter.pdf
footprint TSSOP24 (Shrink Small Outline; 24 Leads; Body Width 4.4 mm; Pitch 0.65 mm)
3D model TSSOP24 (Shrink Small Outline; 24 Leads; Body Width 4.4 mm; Pitch 0.65 mm)
pins: 1 ~{PWR} (oc), 2 X1 (in), 3 X2 (in), 4 AD0 (io), 5 AD1 (io), 6 AD2 (io), 7 AD3 (io), 8 AD4 (io), 9 AD5 (io), 10 AD6 (io), 11 AD7 (io), 12 GND (power), 13 ~{CS} (in), 14 ALE (in), 15 ~{WR} (in), 16 GND (power), 17 ~{RD} (in), 18 ~{KS} (in), 19 ~{IRQ} (oc), 20 VBAT (power), 21 ~{RCLR} (in), 22 VBAUX (in), 23 SQW (out), 24 VCC (power)